# EAGLE library part AT86RF231 (library kwoo)
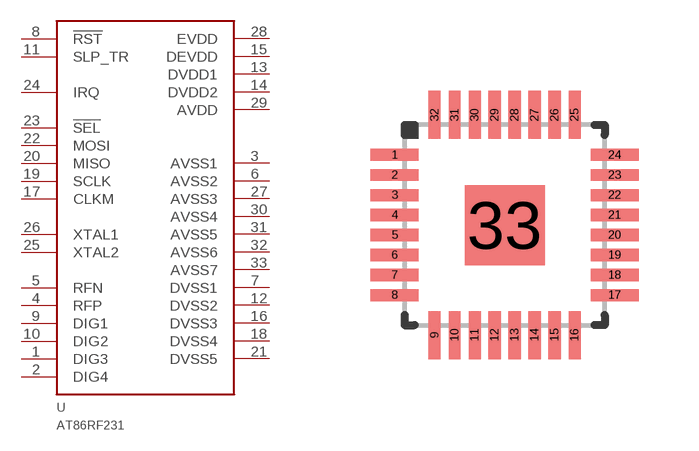
[diagram p15: symbol with the pads of 32-QFN; footprint 32-QFN]

Designator prefix -

## AT86RF231  [32-QFN]
1  DIG3
2  DIG4
3  AVSS1
4  RFP
5  RFN
6  AVSS2
7  DVSS1
8  !RST
9  DIG1
10  DIG2
11  SLP_TR
12  DVSS2
13  DVDD1
14  DVDD2
15  DEVDD
16  DVSS3
17  CLKM
18  DVSS4
19  SCLK
20  MISO
21  DVSS5
22  MOSI
23  !SEL
24  IRQ
25  XTAL2
26  XTAL1
27  AVSS3
28  EVDD
29  AVDD
30  AVSS4
31  AVSS5
32  AVSS6
33  AVSS7

## Footprint 32-QFN (pad centres in mm)
smd 1.2 x 0.3: 1 -2.75,1.75; 2 -2.75,1.25; 3 -2.75,0.75; 4 -2.75,0.25; 5 -2.75,-0.25; 6 -2.75,-0.75; 7 -2.75,-1.25; 8 -2.75,-1.75; 17 2.75,-1.75; 18 2.75,-1.25; 19 2.75,-0.75; 20 2.75,-0.25; 21 2.75,0.25; 22 2.75,0.75; 23 2.75,1.25; 24 2.75,1.75
smd 0.3 x 1.2: 9 -1.75,-2.75; 10 -1.25,-2.75; 11 -0.75,-2.75; 12 -0.25,-2.75; 13 0.25,-2.75; 14 0.75,-2.75; 15 1.25,-2.75; 16 1.75,-2.75; 25 1.75,2.75; 26 1.25,2.75; 27 0.75,2.75; 28 0.25,2.75; 29 -0.25,2.75; 30 -0.75,2.75; 31 -1.25,2.75; 32 -1.75,2.75
smd 2 x 2: 33 0,0